# EAGLE library part ALPSSWITCH (library HikeBuddy)
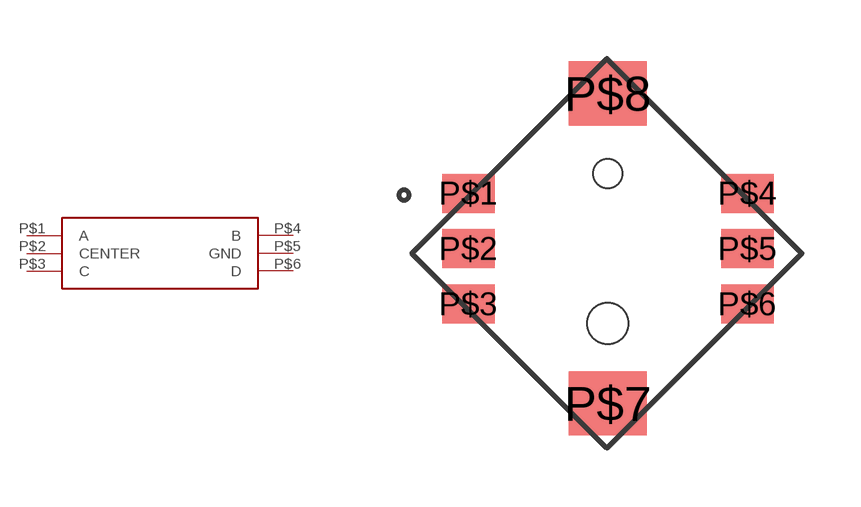
[diagram p2: symbol with the pads of ALPSSWITCH; footprint ALPSSWITCH]

Designator prefix -

## ALPSSWITCH  [ALPSSWITCH]
P$1  A
P$2  CENTER
P$3  C
P$4  B
P$5  GND
P$6  D

## Footprint ALPSSWITCH (pad centres in mm)
smd 1.35 x 1: P$1 0,2.84; P$2 0,1.42; P$3 0,0; P$4 7.15,2.84; P$5 7.15,1.42; P$6 7.15,0
smd 2 x 1.65: P$7 3.575,-2.55; P$8 3.575,5.4
hole 1.05 at 3.575,-0.5
hole 0.75 at 3.575,3.35